# Altium integrated library USB-B-S-X-X-TH.IntLib: 1 symbol
Pins are listed as number, name and electrical type; pins without a type are passive.

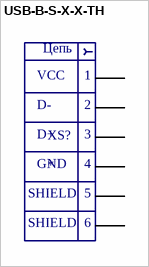
[diagram p0: symbol USB-B-S-X-X-TH]

## USB-B-S-X-X-TH
designator XS?
USB-B (USB TYPE-B) USB 2.0 Receptacle Connector 4 Position Through Hole, Right Angle; MP: USB-B-S-S-B-TH; MF: Samtec; Availability: Unavailable; Package: None; SnapEDA_Link: https://www.snapeda.com/parts/USB-B-S-S-B-TH/Samtec%20Inc./view-part/230656/?ref=snap; Value: *; Price: None; Toby_UK-Purchase-URL: https://snapeda.com/shop?store=Toby+UK&id=230656
footprint SAMTEC_USB-B-S-X-X-TH
pins: 1 VCC, 2 D-, 3 D+, 4 GND, S1 SHIELD, S2 SHIELD
text: Цепь; 5; 6